# Altium integrated library IKCM30F60GDXKMA1.IntLib: 1 symbol
Pins are listed as number, name and electrical type; pins without a type are passive.

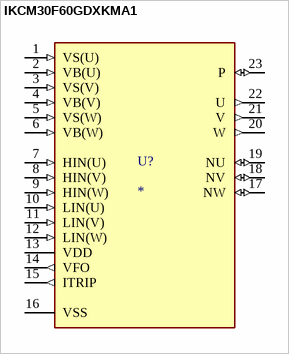
[diagram p0: symbol IKCM30F60GDXKMA1]

## IKCM30F60GDXKMA1
designator U?
Fully isolated Dual In-Line molded module; MF: Infineon Technologies; MP: IKCM30F60GDXKMA1; Package: PowerDIP-24 Infineon; Price: None; Check_prices: https://www.snapeda.com/parts/IKCM30F60GDXKMA1/Infineon+Technologies/view-part/?ref=eda; Value: *; SnapEDA_Link: https://www.snapeda.com/parts/IKCM30F60GDXKMA1/Infineon+Technologies/view-part/?ref=snap; Availability: In Stock; Purchase-URL: https://pricing.snapeda.com/search?q=IKCM30F60GDXKMA1&ref=eda
footprint IC_IKCM30F60GDXKMA1
pins: 1 VS(U) (in), 2 VB(U) (in), 3 VS(V) (in), 4 VB(V) (in), 5 VS(W) (in), 6 VB(W) (in), 7 HIN(U) (in), 8 HIN(V) (in), 9 HIN(W) (in), 10 LIN(U) (in), 11 LIN(V) (in), 12 LIN(W) (in), 13 VDD (power), 14 VFO (out), 15 ITRIP (out), 16 VSS (power), 17 NW (io), 18 NV (io), 19 NU (io), 20 W (out), 21 V (out), 22 U (out), 23 P (io)